# EAGLE library part LM2734 (library power)
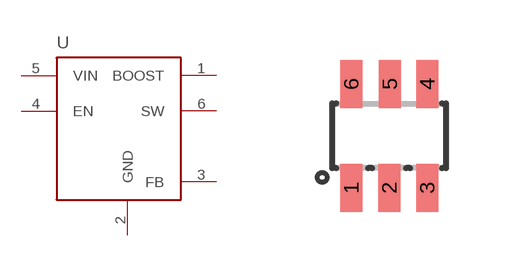
[diagram p1: symbol with the pads of SOT23-6; footprint SOT23-6]

Designator prefix -

## LM2734 (DISTRIBUTOR: Digikey; ORDER_CODE: LM2734ZMK/NOPBCT-ND; PLACE_PART: YES; UNIT_PRICE: 2.83; UNIT_PRICE_100X: 2.0705; UNIT_PRICE_10X: 2.532; UNIT_PRICE_25X: 2.2764; UNIT_PRICE_50X: 2.2764)  [SOT23-6]
1  BOOST
2  GND
3  FB
4  EN
5  VIN
6  SW

## Footprint SOT23-6 (pad centres in mm)
Small Outline Transistor
smd 0.55 x 1.2: 1 -0.95,-1.3; 2 0,-1.3; 3 0.95,-1.3; 4 0.95,1.3; 5 0.015,1.3; 6 -0.95,1.3